# EAGLE library part AT90PWM316 (library m_misc)
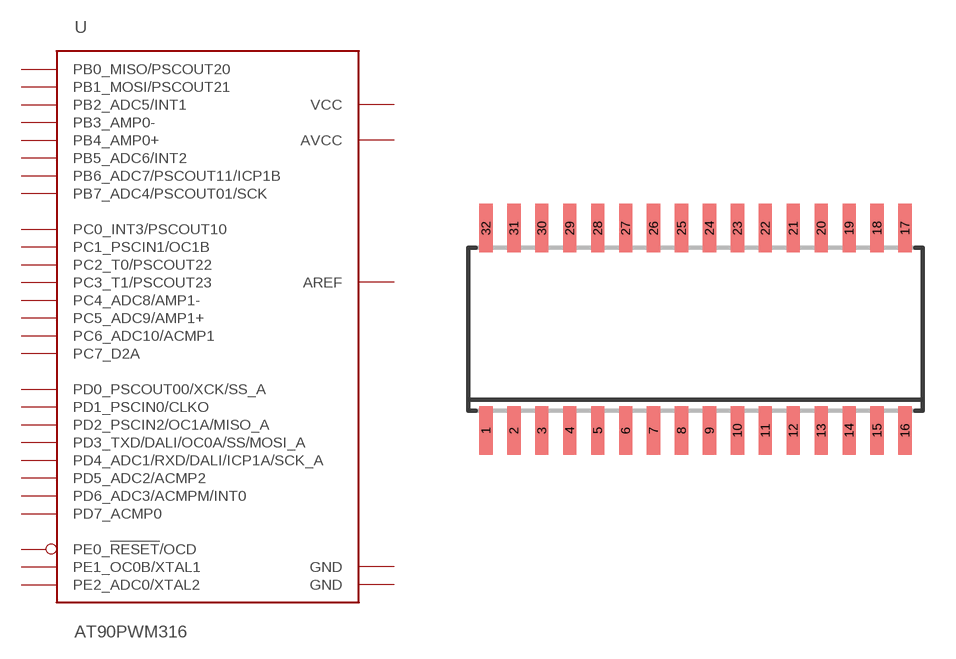
[diagram p22: symbol with the pads of SOP32W; footprint SOP32W]

Designator prefix -

## AT90PWM316  [SOP32W]
1  PD0_PSCOUT00/XCK/SS_A  pas
2  PC0_INT3/PSCOUT10  pas
3  PE0_!RESET!/OCD  pas
4  PD1_PSCIN0/CLKO  pas
5  PD2_PSCIN2/OC1A/MISO_A  pas
6  PD3_TXD/DALI/OC0A/SS/MOSI_A  pas
7  PC1_PSCIN1/OC1B  pas
8  VCC  pas
9  GND  pas
10  PC2_T0/PSCOUT22  pas
11  PC3_T1/PSCOUT23  pas
12  PB0_MISO/PSCOUT20  pas
13  PB1_MOSI/PSCOUT21  pas
14  PE1_OC0B/XTAL1  pas
15  PE2_ADC0/XTAL2  pas
16  PD4_ADC1/RXD/DALI/ICP1A/SCK_A  pas
17  PD5_ADC2/ACMP2  pas
18  PD6_ADC3/ACMPM/INT0  pas
19  PD7_ACMP0  pas
20  PB2_ADC5/INT1  pas
21  PC4_ADC8/AMP1-  pas
22  PC5_ADC9/AMP1+  pas
23  AVCC  pas
24  GND  pas
25  AREF  pas
26  PC6_ADC10/ACMP1  pas
27  PB3_AMP0-  pas
28  PB4_AMP0+  pas
29  PC7_D2A  pas
30  PB5_ADC6/INT2  pas
31  PB6_ADC7/PSCOUT11/ICP1B  pas
32  PB7_ADC4/PSCOUT01/SCK  pas

## Footprint SOP32W (pad centres in mm)
Small Outline Package widt
smd 0.6 x 2.2: 1 -9.525,-4.6; 2 -8.255,-4.6; 3 -6.985,-4.6; 4 -5.715,-4.6; 5 -4.445,-4.6; 6 -3.175,-4.6; 7 -1.905,-4.6; 8 -0.635,-4.6; 9 0.635,-4.6; 10 1.905,-4.6; 11 3.175,-4.6; 12 4.445,-4.6; 13 5.715,-4.6; 14 6.985,-4.6; 15 8.255,-4.6; 16 9.525,-4.6; 17 9.525,4.6; 18 8.255,4.6; 19 6.985,4.6; 20 5.715,4.6; 21 4.445,4.6; 22 3.175,4.6; 23 1.905,4.6; 24 0.635,4.6; 25 -0.635,4.6; 26 -1.905,4.6; 27 -3.175,4.6; 28 -4.445,4.6; 29 -5.715,4.6; 30 -6.985,4.6; 31 -8.255,4.6; 32 -9.525,4.6